# Altium schematic symbol library Schlib1.SchLib: 1 symbol
Pins are listed as number, name and electrical type; pins without a type are passive.

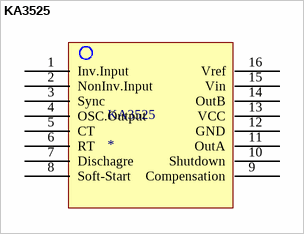
[diagram p0: symbol KA3525]

## KA3525
designator KA3525
footprint KA3525-DIP16
pins: 1 Inv.Input, 2 NonInv.Input, 3 Sync, 4 OSC.Output, 5 CT, 6 RT, 7 Dischagre, 8 Soft-Start, 9 Compensation, 10 Shutdown, 11 OutA, 12 GND, 13 VCC, 14 OutB, 15 Vin, 16 Vref